# Altium footprint library Capstone-2025.PcbLib: 6 footprints
Each footprint in its own frame and in the unit in brackets; x right, y up, seen from the top. Pads: shape width x height; smd on the part's side, far side on the other; paste and mask are expansions set on the pad; w line width, h text height; cw(c..) or ccw(c..) is an arc to the next point about the centre after c.
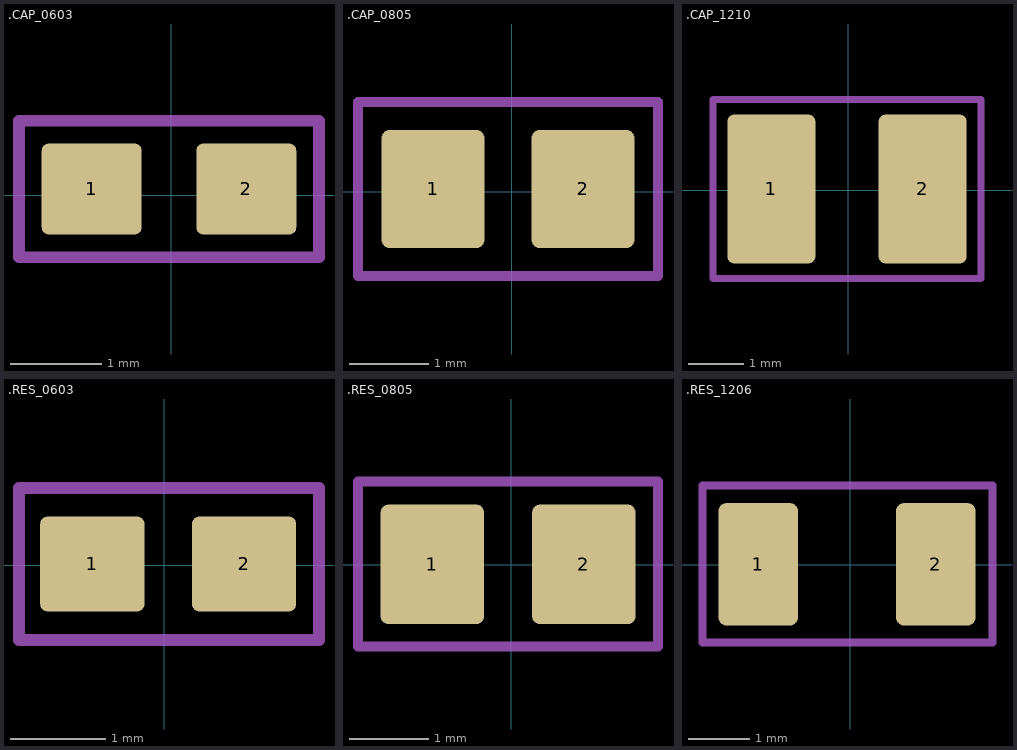
[diagram p0: the footprints below, top view; thin cyan lines are the x and y axes]

## .CAP_0603 [mm] "GENERIC 0603 CAPACITOR"
pads (2):
  rrect15% 1.1x1 smd: 1(-0.873,0.07) 2(0.827,0.07)
Top Designator:
  text ".Designator" at -0.39,-0.027 h0.75
Top Courtyard:
  lines w0.127: -1.673,-0.68 1.627,-0.68 1.627,0.82 -1.673,0.82 -1.673,-0.68
3D body "c0603c101j1gactu.stp": height 0.87, standoff 0, extent -0.898,-0.38 0.852,0.57

## .CAP_0805 [mm] "GENERIC 0805 CAPACITOR"
pads (2):
  rrect15% 1.3x1.5 smd: 1(-0.995,0.036) 2(0.905,0.036)
Top Designator:
  text ".Designator" at -0.391,-0.202 h1.52
Top Courtyard:
  lines w0.127: -1.945,-1.064 -1.945,1.136 1.855,1.136 1.855,-1.064 -1.945,-1.064
3D body "CAP0805.stp": height 1.39, standoff -0.01, extent -1.145,-0.664 1.055,0.786

## .CAP_1210 [mm] "GENERIC 1210 CAPACITOR"
pads (2):
  rrect15% 1.6x2.7 smd: 1(-1.4,0.025) 2(1.35,0.025)
Top Component Outline:
  lines w0.05: -2.375,-1.575 2.325,-1.575 ; -2.375,1.625 2.325,1.625
Top Designator:
  text ".Designator" at -0.102,-0.051 h1.52
Top Courtyard:
  lines w0.127: -2.464,-1.6 -2.464,1.651 2.413,1.651 2.413,-1.6 -2.464,-1.6
3D body: height 2.7, standoff 0, extent 0.975,-1.325 1.725,1.375
3D body: height 2.7, standoff 0, extent -1.775,-1.325 -1.025,1.375
3D body: height 2.7, standoff 0, extent -1.025,-1.325 0.975,1.375

## .RES_0603 [mm] "GENERIC 0603 RESISTOR"
pads (2):
  rrect15% 1.1x1 smd: 1(-0.757,0.011) 2(0.843,0.011)
Top Designator:
  text ".Designator" at -0.207,-0.289 h0.75
Top Courtyard:
  lines w0.127: -1.531,-0.789 -1.531,0.81 1.633,0.81 1.633,-0.789 -1.531,-0.789
3D body "0603.step": height 0.46, standoff 0.01, extent -0.757,-0.389 0.843,0.411

## .RES_0805 [mm] "GENERIC 0805 RESISTOR"
pads (2):
  rrect15% 1.3x1.5 smd: 1(-0.992,0.005) 2(0.908,0.005)
Top Designator:
  text ".Designator" at -0.365,-0.204 h0.75
Top Courtyard:
  lines w0.127: -1.926,-1.024 1.838,-1.024 1.838,1.045 -1.926,1.045 -1.926,-1.024
3D body "0805 resistor.step": height 0.61, standoff 0.01, extent -1.042,-0.62 0.958,0.63

## .RES_1206 [mm] "GENERIC 1206 RESISTOR"
pads (2):
  rrect20% 1.3x2 smd: 1(-1.503,0.009) 2(1.397,0.009)
Top Component Outline:
  lines w0.127: -2.413,-1.27 2.325,-1.27 2.325,1.299 -2.413,1.299 -2.413,-1.27
Top Designator:
  text ".Designator" at -0.303,-0.241 h0.75
3D body "1206 resistor.step": height 0.61, standoff 0.01, extent -1.653,-0.791 1.547,0.809